# EAGLE library part MAX9709_OLD (library Parts)
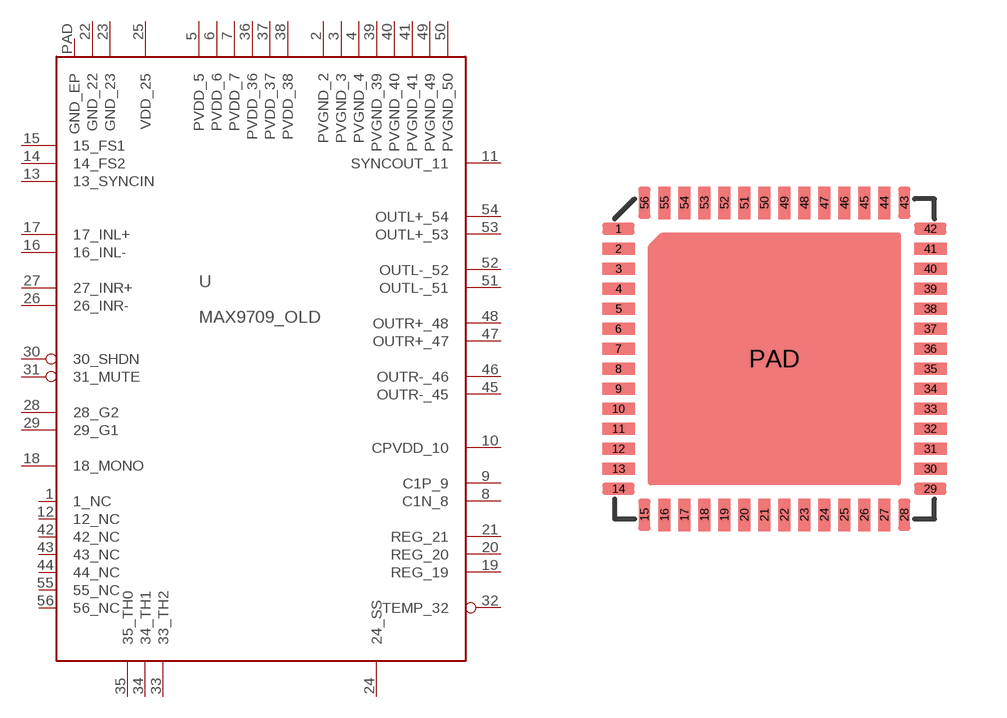
[diagram p3: symbol with the pads of TQFN-EP; footprint TQFN-EP]

Designator prefix -

## MAX9709_OLD  [TQFN-EP]
1  1_NC  nc
2  PVGND_2
3  PVGND_3
4  PVGND_4
5  PVDD_5
6  PVDD_6
7  PVDD_7
8  C1N_8
9  C1P_9
10  CPVDD_10
11  SYNCOUT_11
12  12_NC  nc
13  13_SYNCIN
14  14_FS2
15  15_FS1
16  16_INL-
17  17_INL+
18  18_MONO
19  REG_19
20  REG_20
21  REG_21
22  GND_22
23  GND_23
24  24_SS
25  VDD_25
26  26_INR-
27  27_INR+
28  28_G2
29  29_G1
30  30_SHDN
31  31_MUTE
32  TEMP_32
33  33_TH2
34  34_TH1
35  35_TH0
36  PVDD_36
37  PVDD_37
38  PVDD_38
39  PVGND_39
40  PVGND_40
41  PVGND_41
42  42_NC  nc
43  43_NC  nc
44  44_NC  nc
45  OUTR-_45
46  OUTR-_46
47  OUTR+_47
48  OUTR+_48
49  PVGND_49
50  PVGND_50
51  OUTL-_51
52  OUTL-_52
53  OUTL+_53
54  OUTL+_54
55  55_NC  nc
56  56_NC  nc
PAD  GND_EP

## Footprint TQFN-EP (pad centres in mm)
smd 0.813 x 0.31: 1 -3.9,3.25; 2 -3.9,2.75; 3 -3.9,2.25; 4 -3.9,1.75; 5 -3.9,1.25; 6 -3.9,0.75; 7 -3.9,0.25; 8 -3.9,-0.25; 9 -3.9,-0.75; 10 -3.9,-1.25; 11 -3.9,-1.75; 12 -3.9,-2.25; 13 -3.9,-2.75; 14 -3.9,-3.25; 29 3.9,-3.25; 30 3.9,-2.75; 31 3.9,-2.25; 32 3.9,-1.75; 33 3.9,-1.25; 34 3.9,-0.75; 35 3.9,-0.25; 36 3.9,0.25; 37 3.9,0.75; 38 3.9,1.25; 39 3.9,1.75; 40 3.9,2.25; 41 3.9,2.75; 42 3.9,3.25
smd 0.31 x 0.813: 15 -3.25,-3.9; 16 -2.75,-3.9; 17 -2.25,-3.9; 18 -1.75,-3.9; 19 -1.25,-3.9; 20 -0.75,-3.9; 21 -0.25,-3.9; 22 0.25,-3.9; 23 0.75,-3.9; 24 1.25,-3.9; 25 1.75,-3.9; 26 2.25,-3.9; 27 2.75,-3.9; 28 3.25,-3.9; 43 3.25,3.9; 44 2.75,3.9; 45 2.25,3.9; 46 1.75,3.9; 47 1.25,3.9; 48 0.75,3.9; 49 0.25,3.9; 50 -0.25,3.9; 51 -0.75,3.9; 52 -1.25,3.9; 53 -1.75,3.9; 54 -2.25,3.9; 55 -2.75,3.9; 56 -3.25,3.9
smd 1.27 x 0.635: PAD 0,0